# EAGLE library part TPS25730DREFR (library TPS25730DREFR)
USB Interface IC TPS25730DREFR SARUMAN BG MCM Source: Datasheet <https://www.ti.com/lit/ds/symlink/tps25730.pdf?ts=1707773923998&ref_url=https%3A%2F%2Fwww.mouser.at%2F>
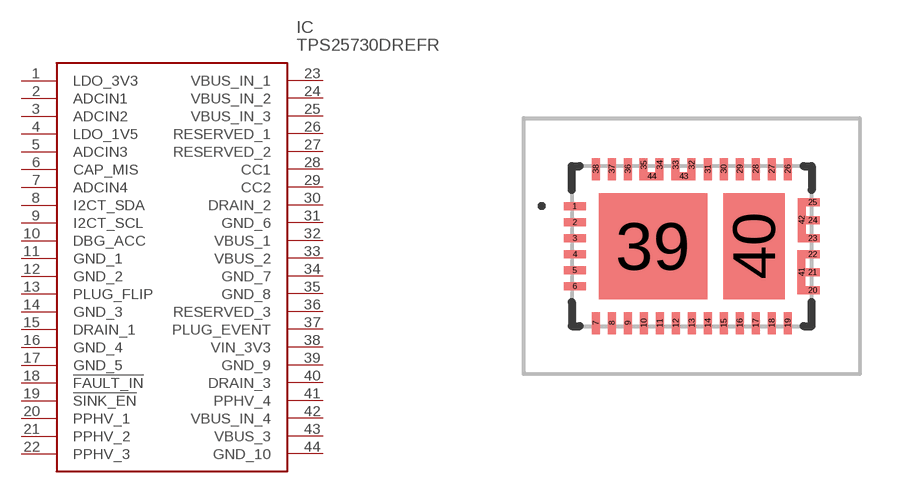
[diagram p0: symbol with the pads of TPS25730DREFR; footprint TPS25730DREFR]

Designator prefix IC

## TPS25730DREFR (Description: USB Interface IC TPS25730DREFR SARUMAN BG MCM; Height: 0.8mm; Manufacturer_Name: Texas Instruments; Manufacturer_Part_Number: TPS25730DREFR; Mouser_Part_Number: 595-TPS25730DREFR; Mouser_Price-Stock: https://www.mouser.co.uk/ProductDetail/Texas-Instruments/TPS25730DREFR?qs=Z%252BL2brAPG1IvmkUK7DRnBA%3D%3D)  [TPS25730DREFR]
1  LDO_3V3
2  ADCIN1
3  ADCIN2
4  LDO_1V5
5  ADCIN3
6  CAP_MIS
7  ADCIN4
8  I2CT_SDA
9  I2CT_SCL
10  DBG_ACC
11  GND_1
12  GND_2
13  PLUG_FLIP
14  GND_3
15  DRAIN_1
16  GND_4
17  GND_5
18  !FAULT_IN
19  !SINK_EN
20  PPHV_1
21  PPHV_2
22  PPHV_3
23  VBUS_IN_1
24  VBUS_IN_2
25  VBUS_IN_3
26  RESERVED_1
27  RESERVED_2
28  CC1
29  CC2
30  DRAIN_2
31  GND_6
32  VBUS_1
33  VBUS_2
34  GND_7
35  GND_8
36  RESERVED_3
37  PLUG_EVENT
38  VIN_3V3
39  GND_9
40  DRAIN_3
41  PPHV_4
42  VBUS_IN_4
43  VBUS_3
44  GND_10

## Footprint TPS25730DREFR (pad centres in mm)
TPS25730DREFR-1
smd 0.55 x 0.2: 1 -2.925,1; 2 -2.925,0.6; 3 -2.925,0.2; 4 -2.925,-0.2; 5 -2.925,-0.6; 6 -2.925,-1
smd 0.2 x 0.55: 7 -2.4,-1.925; 8 -2,-1.925; 9 -1.6,-1.925; 10 -1.2,-1.925; 11 -0.8,-1.925; 12 -0.4,-1.925; 13 0,-1.925; 14 0.4,-1.925; 15 0.8,-1.925; 16 1.2,-1.925; 17 1.6,-1.925; 18 2,-1.925; 19 2.4,-1.925; 26 2.4,1.925; 27 2,1.925; 28 1.6,1.925; 29 1.2,1.925; 30 0.8,1.925; 31 0.4,1.925; 36 -1.6,1.925; 37 -2,1.925; 38 -2.4,1.925
smd 0.35 x 0.2: 20 3.025,-1.1; 21 3.025,-0.65; 22 3.025,-0.2; 23 3.025,0.2; 24 3.025,0.65; 25 3.025,1.1
smd 0.2 x 0.35: 32 -0.001,2.025; 33 -0.401,2.025; 34 -0.801,2.025; 35 -1.201,2.025
smd 2.72 x 2.65: 39 -0.965,0
smd 1.53 x 2.65: 40 1.56,0
smd 0.2 x 1.1: 41 2.749,-0.65; 42 2.75,0.65
smd 0.6 x 0.2: 43 -0.201,1.75; 44 -1.001,1.75